# EAGLE library part ZM1042 (library nixie_tube)
Indicator Tube (numeral height 30mm, no filter, side view, long-life typ)
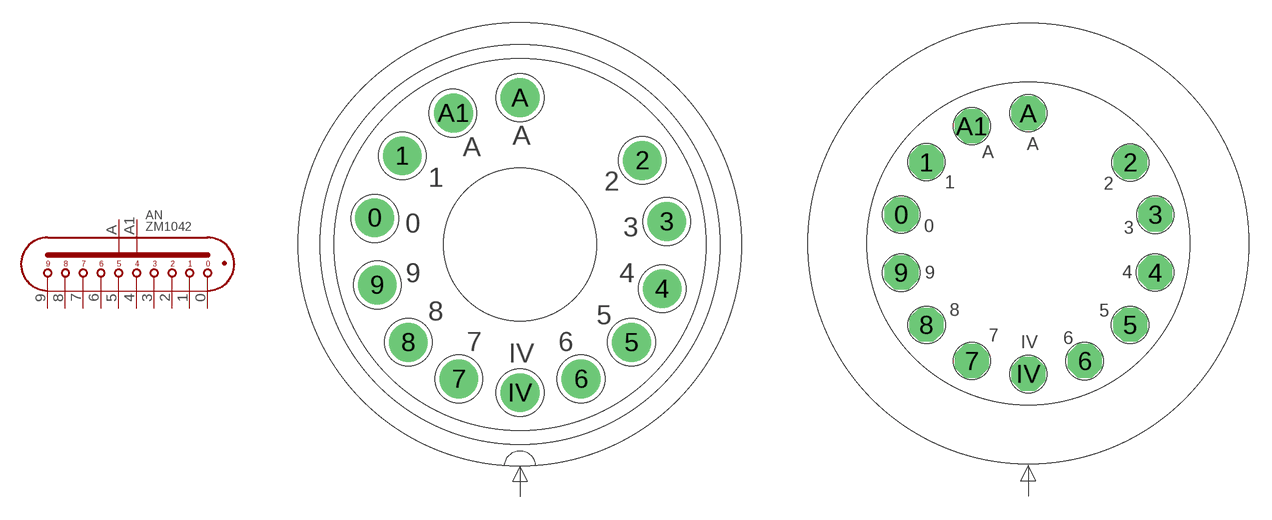
[diagram p2: symbol with the pads of B13B; footprints B13B, ZM1042-MULTI-CONTACT]

Designator prefix AN

## ZM1042-B13B  [B13B]
0  0  pas
1  1  pas
2  2  pas
3  3  pas
4  4  pas
5  5  pas
6  6  pas
7  7  pas
8  8  pas
9  9  pas
A  A1  pas
A1  A2  pas

## ZM1042-B1-B_41.0002  [ZM1042-MULTI-CONTACT]
Pads as for B13B

## ZM1042-1-380758-1  [ZM1042-AMP]
Pads as for B13B

## Footprint B13B (pad centres in mm)
Socket B13B print
drill 1.422 pad 2.54: 0 -9.5,1.75; 1 -7.7,5.8; 2 8,5.5; 3 9.6,1.5; 4 9.3,-2.9; 5 7.3,-6.4; 6 4,-8.8; 7 -4,-8.8; 8 -7.3,-6.4; 9 -9.327,-2.646; A 0,9.6; A1 -4.35,8.6; IV 0,-9.7

## Footprint ZM1042-MULTI-CONTACT (pad centres in mm)
Socket with Multi-Contact (Mini-line Discret Socket Contact) Typ B1-B 41.0002
drill 1.1 pad 2.184 octagon: 0 -8.189,1.869; 1 -6.567,5.237; 2 6.567,5.237; 3 8.189,1.869; 4 8.189,-1.869; 5 6.567,-5.237; 6 3.645,-7.568; 7 -3.645,-7.568; 8 -6.567,-5.237; 9 -8.189,-1.869; A 0,8.4; A1 -3.645,7.568; IV 0,-8.4

## Footprint ZM1042-AMP (pad centres in mm)
Socket with AMP-Discret Socket Contact Typ 1-380758-1
drill 2.3 pad 3.2: 0 -8.189,1.869; 1 -6.567,5.237; 2 6.567,5.237; 3 8.189,1.869; 4 8.189,-1.869; 5 6.567,-5.237; 6 3.645,-7.568; 7 -3.645,-7.568; 8 -6.567,-5.237; 9 -8.189,-1.869; A 0,8.4; A1 -3.645,7.568; IV 0,-8.4